# EAGLE library part TSM-110-01-L-SV (library TSM-110-01-L-SV)
SAMTEC - TSM-110-01-L-SV - HEADER, 2.54MM, SMT, 1X10WAY Source: Datasheet <http://www.farnell.com/datasheets/1847330.pdf>
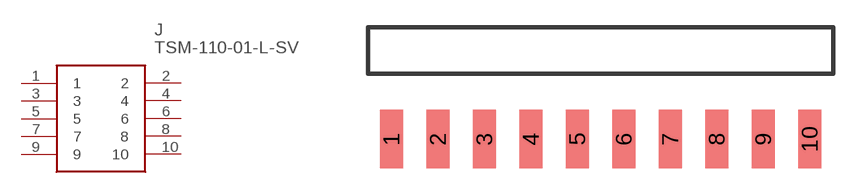
[diagram p0: symbol with the pads of TSM-110-01-L-SH; footprint TSM-110-01-L-SH]

Designator prefix J

## TSM-110-01-L-SV (Arrow_Part_Number: TSM-110-01-L-SV; Arrow_Price-Stock: http://uk.rs-online.com/web/p/products/7656619P; Description: SAMTEC - TSM-110-01-L-SV - HEADER, 2.54MM, SMT, 1X10WAY; Height: mm; Manufacturer_Name: SAMTEC; Manufacturer_Part_Number: TSM-110-01-L-SV; RS_Part_Number: 7656619P; RS_Price-Stock: http://uk.rs-online.com/web/p/products/7656619P)  [TSM-110-01-L-SH]
1  1
2  2
3  3
4  4
5  5
6  6
7  7
8  8
9  9
10  10

## Footprint TSM-110-01-L-SH (pad centres in mm)
TSM-110-01-L-SV
smd 1.27 x 3.18: 1 -11.43,-3.55; 2 -8.89,-3.55; 3 -6.35,-3.55; 4 -3.81,-3.55; 5 -1.27,-3.55; 6 1.27,-3.55; 7 3.81,-3.55; 8 6.35,-3.55; 9 8.89,-3.55; 10 11.43,-3.55